# EAGLE library part DRV8313 (library power)
IC MOTOR DRIVER 1.75A 8~60V 28HTSSOP
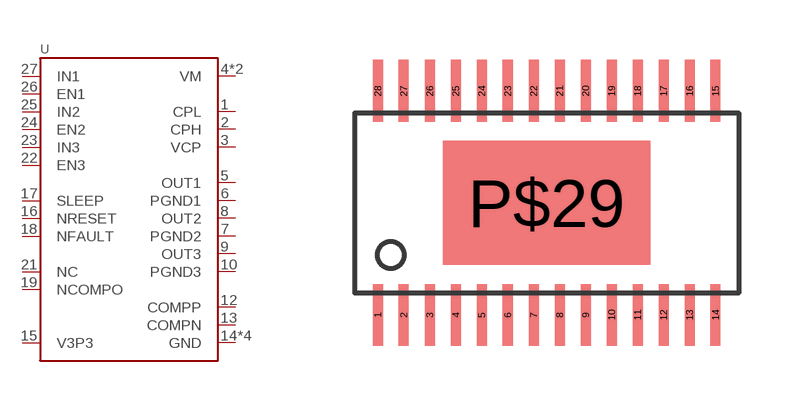
[diagram p8: symbol with the pads of HTSSOP28; footprint HTSSOP28]

Designator prefix U

## DRV8313  [HTSSOP28]
1  CPL
2  CPH
3  VCP
4  VM
5  OUT1
6  PGND1
7  PGND2
8  OUT2
9  OUT3
10  PGND3
11  VM
12  COMPP
13  COMPN
14  GND
15  V3P3
16  NRESET
17  SLEEP
18  NFAULT
19  NCOMPO
20  GND
21  NC
22  EN3
23  IN3
24  EN2
25  IN2
26  EN1
27  IN1
28  GND
P$29  GND

## Footprint HTSSOP28 (pad centres in mm)
smd 0.25 x 1.55: 1 -4.225,-2.8; 2 -3.575,-2.8; 3 -2.925,-2.8; 4 -2.275,-2.8; 5 -1.625,-2.8; 6 -0.975,-2.8; 7 -0.325,-2.8; 8 0.325,-2.8; 9 0.975,-2.8; 10 1.625,-2.8; 11 2.275,-2.8; 12 2.925,-2.8; 13 3.575,-2.8; 14 4.225,-2.8; 15 4.225,2.8; 16 3.575,2.8; 17 2.925,2.8; 18 2.275,2.8; 19 1.625,2.8; 20 0.975,2.8; 21 0.325,2.8; 22 -0.325,2.8; 23 -0.975,2.8; 24 -1.625,2.8; 25 -2.275,2.8; 26 -2.925,2.8; 27 -3.575,2.8; 28 -4.225,2.8
smd 5.18 x 3.1: P$29 0,0